# Altium footprint library PcbLib1.PcbLib: 19 footprints (part 2 of 2)
Each footprint in its own frame and in the unit in brackets; x right, y up, seen from the top. Pads: shape width x height; smd on the part's side, far side on the other; paste and mask are expansions set on the pad; w line width, h text height; cw(c..) or ccw(c..) is an arc to the next point about the centre after c.
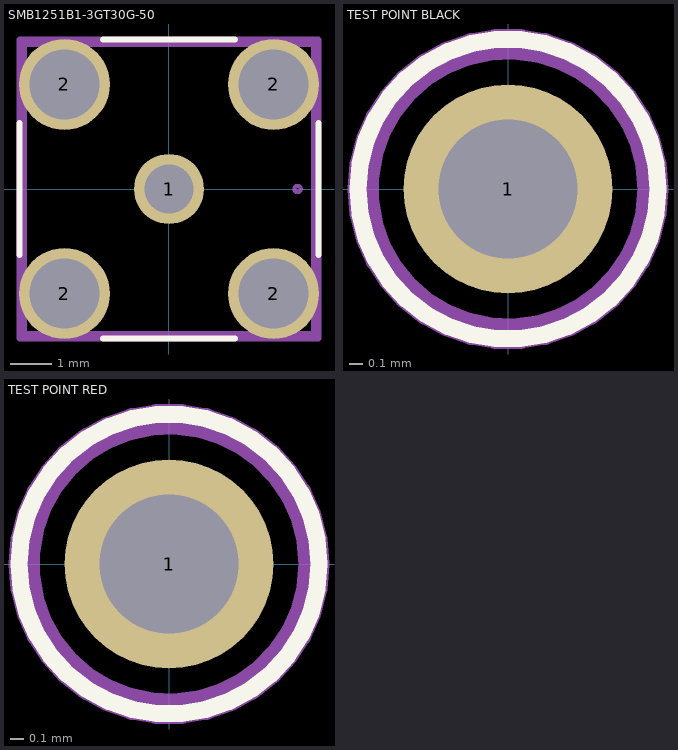
[diagram p1: the footprints below, top view; thin cyan lines are the x and y axes]

## SMB1251B1-3GT30G-50 [mil]
pads (5):
  round 67 / inner round 60 / far side round 67 hole 47 paste-33.5 mask+0: 1(0,0)
  round 87 / inner round 60 / far side round 87 hole 67 paste-43.5 mask+0: 2(-100,-100) 2(-100,100) 2(100,-100) 2(100,100)
Top Overlay:
  lines w6: -143,-63.2 -143,63.2 ; -63.2,-143 63.2,-143 ; -63.2,143 63.2,143 ; 143,-63.2 143,63.2
Top Assembly:
  circle w3.94: c123,0 r3
  lines w3.94: -138,-138 -138,138 138,138 138,-138 -138,-138
Top Courtyard:
  lines w5.98: -142.72,-142.72 142.72,-142.72 142.72,142.72 -142.72,142.72 -142.72,-142.72
3D body "SMB1251B1-3GT30G-50.stp": height 299.8, standoff -153.35, extent -137.79,-137.79 137.96,137.8

## TEST POINT BLACK [mm]
pads (1):
  round 1.53 hole 1.02: 1(0,0)
Top Overlay:
  circle w0.127: c0,0 r1.1
Top Assembly:
  circle w0.1: c0,0 r1
Top Courtyard:
  circle w0.152: c0,0 r1.1
3D body "20-2137.stp": height 4.62, standoff -2.89, extent -0.75,-0.75 0.75,0.75

## TEST POINT RED [mm]
pads (1):
  round 1.53 hole 1.02: 1(0,0)
Top Overlay:
  circle w0.127: c0,0 r1.1
Top Assembly:
  circle w0.1: c0,0 r1
Top Courtyard:
  circle w0.152: c0,0 r1.1
3D body "20-2137 red v2.step": height 4.62, standoff -2.89, extent -0.748,-0.75 0.749,0.744